# Altium schematic symbol library ind_1.Schlib: 1 symbol
Pins are listed as number, name and electrical type; pins without a type are passive.

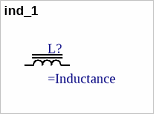
[diagram p0: symbol ind_1]

## ind_1
designator L?
Inductor, core
pins: 1, 2